# Altium footprint library Microchip Microcontroller 8-Bit -ATtiny .PcbLib: 3 footprints
Each footprint in its own frame and in the unit in brackets; x right, y up, seen from the top. Pads: shape width x height; smd on the part's side, far side on the other; paste and mask are expansions set on the pad; w line width, h text height; cw(c..) or ccw(c..) is an arc to the next point about the centre after c.
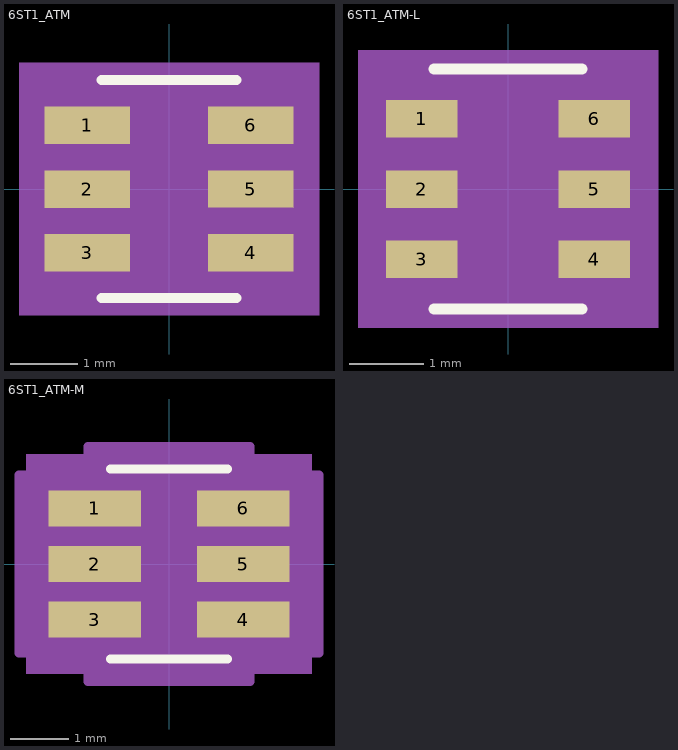
[diagram p0: the footprints below, top view; thin cyan lines are the x and y axes]

## 6ST1_ATM [mil]
pads (6):
  rect 50x22 smd: 1(-48,37.4) 2(-48,0) 3(-48,-37.4) 4(48,-37.4) 5(48,0) 6(48,37.4)
Top Overlay:
  lines w6: -39.5,-64 39.5,-64 ; -39.5,64 39.5,64
Mechanical 5:
  region: 88,-74 -88,-74 -88,74 88,74
Mechanical 13:
  lines w0: -12,59 ccw(c0,59) 12,59
  lines w1: -59,-47.4 -34.5,-47.4 -34.5,-27.4 -59,-27.4 -59,-47.4 ; -59,-10 -34.5,-10 -34.5,10 -59,10 -59,-10 ; -59,27.4 -34.5,27.4 -34.5,47.4 -59,47.4 -59,27.4 ; -34.5,-59 -34.5,59 34.5,59 34.5,-59 -34.5,-59 ; 34.5,-47.4 59,-47.4 59,-27.4 34.5,-27.4 34.5,-47.4 ; 34.5,-10 59,-10 59,10 34.5,10 34.5,-10 ; 34.5,27.4 59,27.4 59,47.4 34.5,47.4 34.5,27.4
Mechanical 15:
  region: -44.5,-58.1 -83,-58.1 -83,58.1 -44.5,58.1 -44.5,69 44.5,69 44.5,58.1 83,58.1 83,-58.1 44.5,-58.1 44.5,-69 -44.5,-69
  lines w6: -83,-58.1 -44.5,-58.1 -44.5,-69 44.5,-69 44.5,-58.1 83,-58.1 83,58.1 44.5,58.1 44.5,69 -44.5,69 -44.5,58.1 -83,58.1 -83,-58.1
3D body "User Library-SOT23-6-1.STEP": height 43.5, standoff 0.5, extent -47.75,-55 47.75,55

## 6ST1_ATM-L [mil]
pads (6):
  rect 38x20 smd: 1(-46,37.4) 2(-46,0) 3(-46,-37.4) 4(46,-37.4) 5(46,0) 6(46,37.4)
Top Overlay:
  lines w6: -39.5,-64 39.5,-64 ; -39.5,64 39.5,64
Mechanical 5:
  region: 80,-74 -80,-74 -80,74 80,74
Mechanical 13:
  lines w0: -12,59 ccw(c0,59) 12,59
  lines w1: -59,-47.4 -59,-27.4 -34.5,-27.4 -34.5,-47.4 -59,-47.4 ; -59,-10 -59,10 -34.5,10 -34.5,-10 -59,-10 ; -59,27.4 -59,47.4 -34.5,47.4 -34.5,27.4 -59,27.4 ; -34.5,-59 34.5,-59 34.5,59 -34.5,59 -34.5,-59 ; 34.5,-47.4 34.5,-27.4 59,-27.4 59,-47.4 34.5,-47.4 ; 34.5,-10 34.5,10 59,10 59,-10 34.5,-10 ; 34.5,27.4 34.5,47.4 59,47.4 59,27.4 34.5,27.4
Mechanical 15:
  region: -38.5,-56.9 -69,-56.9 -69,56.9 -38.5,56.9 -38.5,63 38.5,63 38.5,56.9 69,56.9 69,-56.9 38.5,-56.9 38.5,-63 -38.5,-63
  lines w6: -69,-56.9 -69,56.9 -38.5,56.9 -38.5,63 38.5,63 38.5,56.9 69,56.9 69,-56.9 38.5,-56.9 38.5,-63 -38.5,-63 -38.5,-56.9 -69,-56.9
3D body "User Library-SOT23-6-1.STEP": height 43.5, standoff 0.5, extent -47.75,-55 47.75,55

## 6ST1_ATM-M [mil]
pads (6):
  rect 62x24 smd: 1(-50,37.4) 2(-50,0) 3(-50,-37.4) 4(50,-37.4) 5(50,0) 6(50,37.4)
Top Overlay:
  lines w6: -39.5,-64 39.5,-64 ; -39.5,64 39.5,64
Mechanical 5:
  region: 96,-74 -96,-74 -96,74 96,74
Mechanical 13:
  lines w0: -12,59 ccw(c0,59) 12,59
  lines w1: -59,-47.4 -34.5,-47.4 -34.5,-27.4 -59,-27.4 -59,-47.4 ; -59,-10 -34.5,-10 -34.5,10 -59,10 -59,-10 ; -59,27.4 -34.5,27.4 -34.5,47.4 -59,47.4 -59,27.4 ; -34.5,-59 -34.5,59 34.5,59 34.5,-59 -34.5,-59 ; 34.5,-47.4 59,-47.4 59,-27.4 34.5,-27.4 34.5,-47.4 ; 34.5,-10 59,-10 59,10 34.5,10 34.5,-10 ; 34.5,27.4 59,27.4 59,47.4 34.5,47.4 34.5,27.4
Mechanical 15:
  region: -54.5,-60.1 -101,-60.1 -101,60.1 -54.5,60.1 -54.5,79 54.5,79 54.5,60.1 101,60.1 101,-60.1 54.5,-60.1 54.5,-79 -54.5,-79
  lines w6: -101,-60.1 -54.5,-60.1 -54.5,-79 54.5,-79 54.5,-60.1 101,-60.1 101,60.1 54.5,60.1 54.5,79 -54.5,79 -54.5,60.1 -101,60.1 -101,-60.1
3D body "User Library-SOT23-6-1.STEP": height 43.5, standoff 0.5, extent -47.75,-55 47.75,55